# EAGLE library part SD-RSMT-2-MQ-WF (library Common-Parts-Library-Eagle)
Se008026269 Sd-Rsmt-2-Mq-Wf=Sd Push Type, 10u" Au
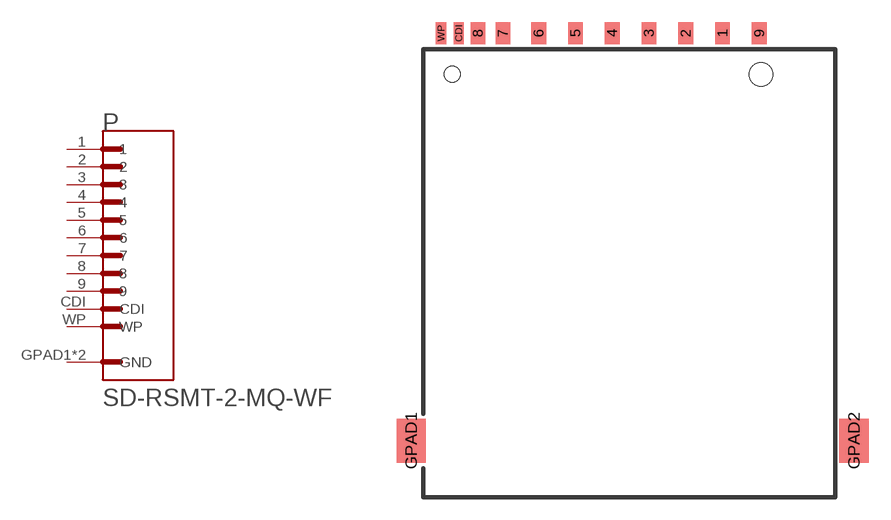
[diagram p6: symbol with the pads of 3M_SD-RSMT-2-MQ-WF; footprint 3M_SD-RSMT-2-MQ-WF]

Designator prefix P

## SD-RSMT-2-MQ-WF (MANUFACTURER: 3M)  [3M_SD-RSMT-2-MQ-WF]
1  1  pas
2  2  pas
3  3  pas
4  4  pas
5  5  pas
6  6  pas
7  7  pas
8  8  pas
9  9  pas
CDI  CDI  in
GPAD1  GND  pas
GPAD2  GND  pas
WP  WP  in

## Footprint 3M_SD-RSMT-2-MQ-WF (pad centres in mm)
smd 1 x 1.5: 1 6.88,0; 2 4.38,0; 3 1.88,0; 4 -0.62,0; 5 -3.12,0; 6 -5.62,0; 7 -8.05,0; 8 -9.75,0; 9 9.38,0
smd 0.7 x 1.5: CDI -11.05,0; WP -12.25,0
smd 2 x 3: GPAD1 -14.28,-27.75; GPAD2 15.82,-27.75
hole 1.6 at 9.5,-2.8
hole 1.1 at -11.5,-2.8